# EAGLE library part 1296-T38 (library con-leotronics)
1.27mm SINGLE ROW FEMALE SOCKET Source: http://www.leotronics.co.uk/Conexcon/Data%20Sheets/sec.%20A/1296ing.pdf
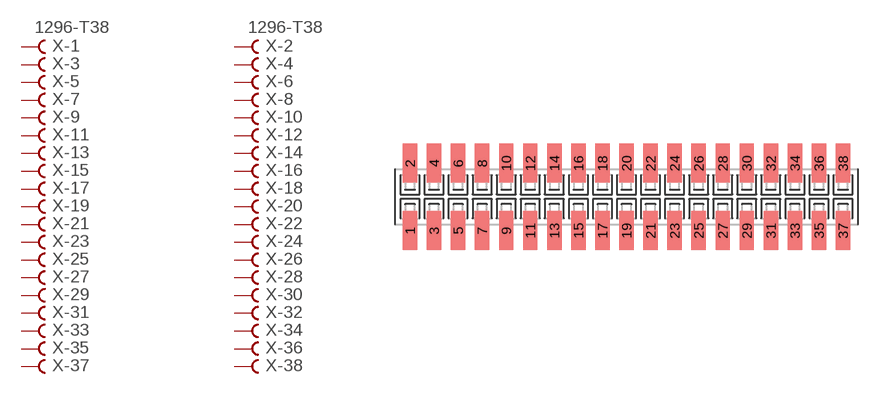
[diagram p14: symbol with the pads of 1296-38; footprint 1296-38]

Designator prefix X; gates -1=FVAL -2=FVAL -3=F -4=F -5=F -6=F -7=F -8=F -9=F -10=F -11=F -12=F -13=F -14=F -15=F -16=F -17=F -18=F -19=F -20=F -21=F -22=F -23=F -24=F -25=F -26=F -27=F -28=F -29=F -30=F -31=F -32=F -33=F -34=F -35=F -36=F -37=F -38=F

## 1296-T38 (OC_FARNELL: unknown; OC_NEWARK: unknown)  [1296-38]
1  -1:B  pas
2  -2:B  pas
3  -3:B  pas
4  -4:B  pas
5  -5:B  pas
6  -6:B  pas
7  -7:B  pas
8  -8:B  pas
9  -9:B  pas
10  -10:B  pas
11  -11:B  pas
12  -12:B  pas
13  -13:B  pas
14  -14:B  pas
15  -15:B  pas
16  -16:B  pas
17  -17:B  pas
18  -18:B  pas
19  -19:B  pas
20  -20:B  pas
21  -21:B  pas
22  -22:B  pas
23  -23:B  pas
24  -24:B  pas
25  -25:B  pas
26  -26:B  pas
27  -27:B  pas
28  -28:B  pas
29  -29:B  pas
30  -30:B  pas
31  -31:B  pas
32  -32:B  pas
33  -33:B  pas
34  -34:B  pas
35  -35:B  pas
36  -36:B  pas
37  -37:B  pas
38  -38:B  pas

## Footprint 1296-38 (pad centres in mm)
1.27mm SINGLE ROW FEMALE SOCKET Source: http://www.leotronics.co.uk/Conexcon/Data%20Sheets/sec.%20A/1296ing.pdf
smd 0.76 x 2.05: 1 -11.43,-1.78; 2 -11.43,1.78; 3 -10.16,-1.78; 4 -10.16,1.78; 5 -8.89,-1.78; 6 -8.89,1.78; 7 -7.62,-1.78; 8 -7.62,1.78; 9 -6.35,-1.78; 10 -6.35,1.78; 11 -5.08,-1.78; 12 -5.08,1.78; 13 -3.81,-1.78; 14 -3.81,1.78; 15 -2.54,-1.78; 16 -2.54,1.78; 17 -1.27,-1.78; 18 -1.27,1.78; 19 0,-1.78; 20 0,1.78; 21 1.27,-1.78; 22 1.27,1.78; 23 2.54,-1.78; 24 2.54,1.78; 25 3.81,-1.78; 26 3.81,1.78; 27 5.08,-1.78; 28 5.08,1.78; 29 6.35,-1.78; 30 6.35,1.78; 31 7.62,-1.78; 32 7.62,1.78; 33 8.89,-1.78; 34 8.89,1.78; 35 10.16,-1.78; 36 10.16,1.78; 37 11.43,-1.78; 38 11.43,1.78